# Altium footprint library SAMTEC-TSM-103-01-X-DH.PcbLib: 1 footprints
Each footprint in its own frame and in the unit in brackets; x right, y up, seen from the top. Pads: shape width x height; smd on the part's side, far side on the other; paste and mask are expansions set on the pad; w line width, h text height; cw(c..) or ccw(c..) is an arc to the next point about the centre after c.
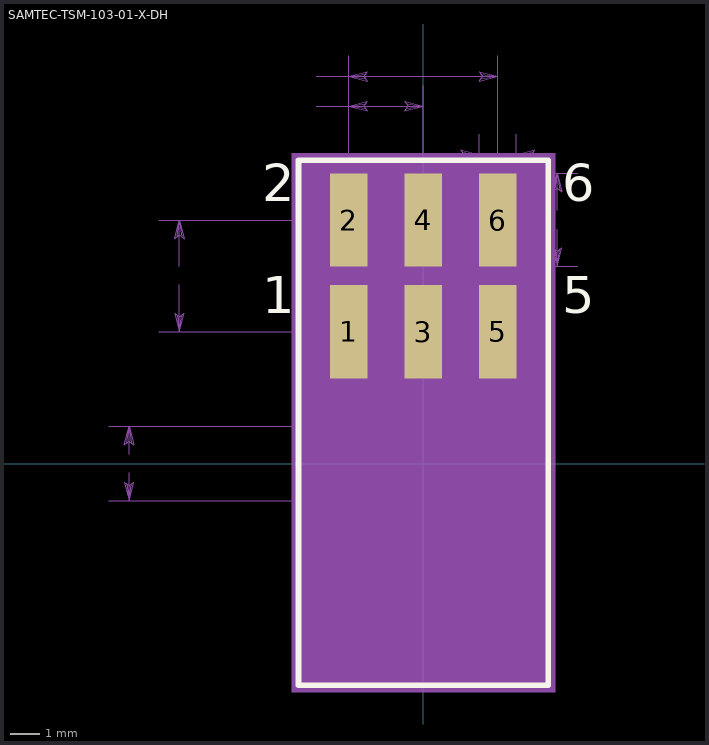
[diagram p0: the footprint, top view; thin cyan lines are the x and y axes]

## SAMTEC-TSM-103-01-X-DH [mm]
pads (6):
  rect 1.27x3.18 smd mask+0: 1(-2.54,4.496) 2(-2.54,8.306) 3(0,4.496) 4(0,8.306) 5(2.54,4.496) 6(2.54,8.306)
Top Overlay:
  lines w0.2: -4.26,-7.562 4.26,-7.562 4.26,10.347 -4.26,10.347 -4.26,-7.562
  text "6" at 4.737,8.941 h1.27
  text "5" at 4.737,5.131 h1.27
  text "2" at -5.496,8.941 h1.27
  text "1" at -5.496,5.131 h1.27
Top Paste:
  region: 3.175,6.716 1.905,6.716 1.905,9.896 3.175,9.896
  region: 3.175,2.906 1.905,2.906 1.905,6.086 3.175,6.086
  region: 0.635,6.716 -0.635,6.716 -0.635,9.896 0.635,9.896
  region: 0.635,2.906 -0.635,2.906 -0.635,6.086 0.635,6.086
  region: -1.905,6.716 -3.175,6.716 -3.175,9.896 -1.905,9.896
  region: -1.905,2.906 -3.175,2.906 -3.175,6.086 -1.905,6.086
Top Solder:
  region: 3.226,6.665 1.854,6.665 1.854,9.947 3.226,9.947
  region: 3.226,2.855 1.854,2.855 1.854,6.137 3.226,6.137
  region: 0.686,6.665 -0.686,6.665 -0.686,9.947 0.686,9.947
  region: 0.686,2.855 -0.686,2.855 -0.686,6.137 0.686,6.137
  region: -1.854,6.665 -3.226,6.665 -3.226,9.947 -1.854,9.947
  region: -1.854,2.855 -3.226,2.855 -3.226,6.137 -1.854,6.137
Mechanical 13:
  drawing of 223 lines, arcs and shapes, not listed
  text "3.175" at 3.912,8.192 h0.25
  text "1.270" at 4.547,10.414 h0.25
  text "6" at 4.737,8.941 h1.27
  text "5" at 4.737,5.131 h1.27
  text "7.620" at -0.66,-3.62 h0.25
  text "5.080" at -5.169,13.081 h0.25
  text "2.540" at -5.169,12.065 h0.25
  text "2" at -5.496,8.941 h1.27
  text "3.810" at -8.979,6.286 h0.25
  text "1" at -5.496,5.131 h1.27
  text "2.540" at -10.693,-0.127 h0.25
Mechanical 15:
  region: 4.495,-7.797 -4.495,-7.797 -4.495,10.582 4.495,10.582
3D body "TSM-103-01-F-DH.stp": height 6.1, standoff 0, extent -3.81,-6.604 3.81,9.652